# EAGLE library part CON-70553-0005 (library diode-20CJQ030)
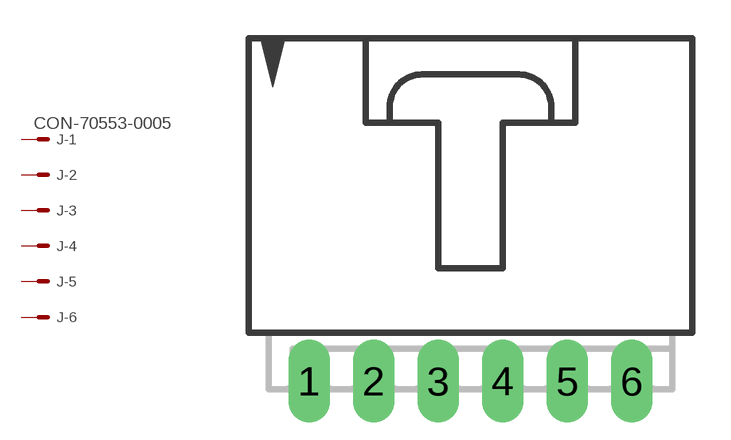
[diagram p93: symbol with the pads of 70553-0005; footprint 70553-0005]

Designator prefix J; gates -1=MV -2=M -3=M -4=M -5=M -6=M

## CON-70553-0005  [70553-0005]
1  -1:S  pas
2  -2:S  pas
3  -3:S  pas
4  -4:S  pas
5  -5:S  pas
6  -6:S  pas

## Footprint 70553-0005 (pad centres in mm)
C-Grid SL Connector right angle, 6 pin
drill 1.09 long: 1 -6.35,-7.62; 2 -3.81,-7.62; 3 -1.27,-7.62; 4 1.27,-7.62; 5 3.81,-7.62; 6 6.35,-7.62